# EAGLE library part INA21X (library dtb)
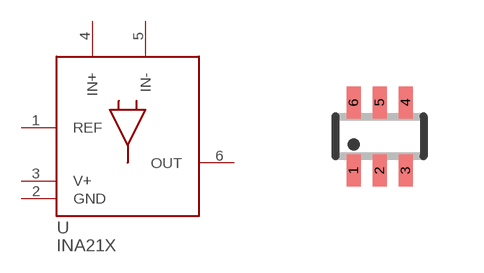
[diagram p9: symbol with the pads of SC70-6L; footprint SC70-6L]

Designator prefix -

## INA21X  [SC70-6L]
1  REF  in
2  GND  pwr
3  V+  pwr
4  IN+  in
5  IN-  in
6  OUT  out

## Footprint SC70-6L (pad centres in mm)
SC-70 Package
smd 0.35 x 0.8: 1 -0.65,-0.85; 2 0,-0.85; 3 0.65,-0.85; 4 0.65,0.85; 5 0,0.85; 6 -0.65,0.85